# Altium schematic symbol library 10k 0402 Res.SchLib: 1 symbol
Pins are listed as number, name and electrical type; pins without a type are passive.

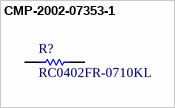
[diagram p0: symbol CMP-2002-07353-1]

## CMP-2002-07353-1
designator R?, comment RC0402FR-0710KL
Manufacturer: Yageo / Phycomp; Part Number: RC0402FR-0710KL
footprint RESC1005X40X25ML05T10 (Chip Resistor, 2-Leads, Body 1.00x0.50mm, IPC Low Density)
footprint RESC1005X40X25LL05T10 (Chip Resistor, 2-Leads, Body 1.00x0.50mm, IPC High Density)
footprint RESC1005X40X25NL05T10 (Chip Resistor, 2-Leads, Body 1.00x0.50mm, IPC Medium Density)
pins: 1, 2
1 alternate drawing of the same symbol